# Altium schematic symbol library RES.Schlib: 6 symbols
Pins are listed as number, name and electrical type; pins without a type are passive.

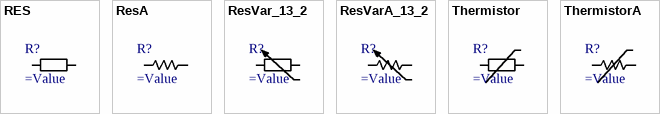
[diagram p0: symbols RES to ThermistorA]

## RES
designator R?
Resistor
footprint 0402_RES
footprint 0603_RES
pins: 1, 2
1 alternate drawing of the same symbol

## ResA
designator R?
Resistor
pins: 1, 2
1 alternate drawing of the same symbol

## ResVar_13_2
designator R?
Resistor
pins: 1, 2, 3
1 alternate drawing of the same symbol

## ResVarA_13_2
designator R?
Resistor
pins: 1, 2, 3
1 alternate drawing of the same symbol

## Thermistor
designator R?
Resistor
pins: 1, 2
1 alternate drawing of the same symbol

## ThermistorA
designator R?
Resistor
pins: 1, 2
1 alternate drawing of the same symbol